# Altium footprint library Arduino_PcbLib1.PcbLib: 26 footprints (part 1 of 2)
Each footprint in its own frame and in the unit in brackets; x right, y up, seen from the top. Pads: shape width x height; smd on the part's side, far side on the other; paste and mask are expansions set on the pad; w line width, h text height; cw(c..) or ccw(c..) is an arc to the next point about the centre after c.
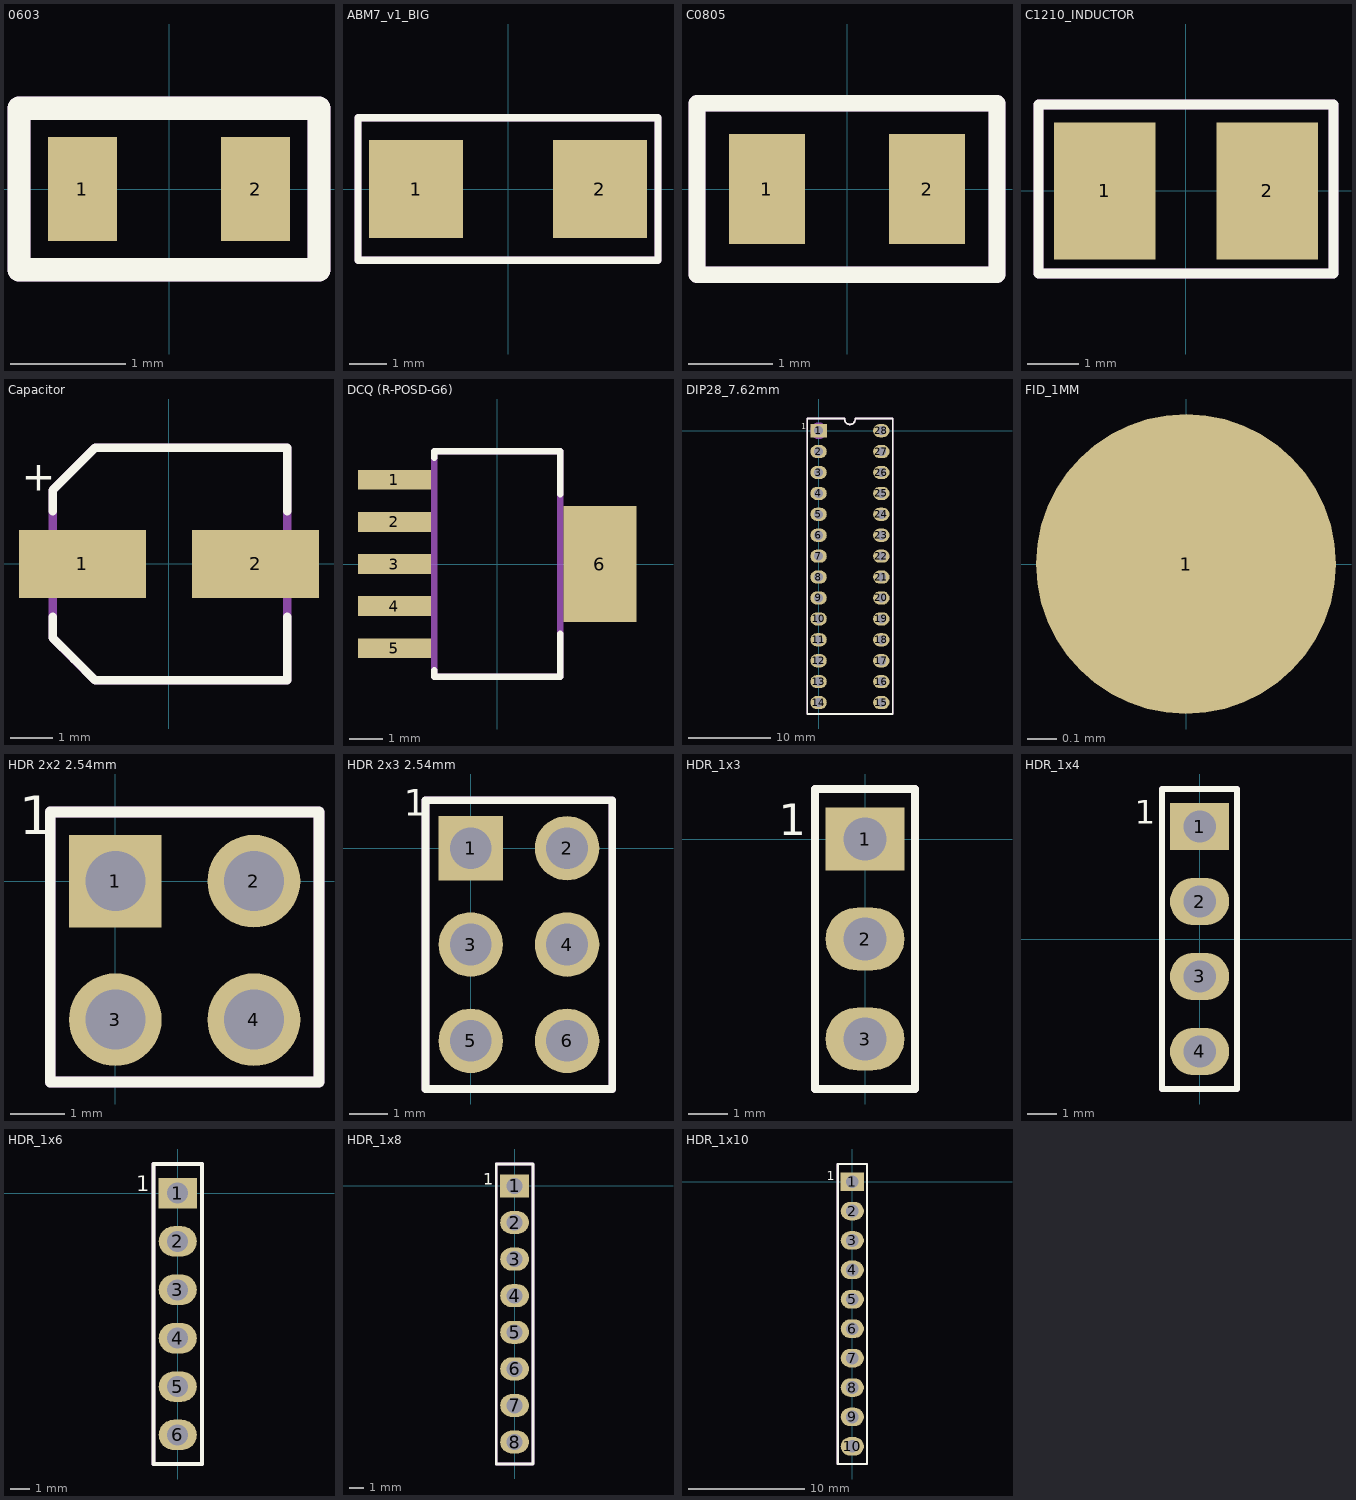
[diagram p0: the footprints below, top view; thin cyan lines are the x and y axes]

## 28_DIP_7.62mm_SOCKET [mm]
3D body "dil_socket.stp": height 4.2, standoff -3.17, extent -1.24,-34.26 8.86,1.24

## 0603 [mm]
pads (2):
  rect 0.6x0.9 smd: 1(-0.75,0) 2(0.75,0)
Top Overlay:
  lines w0.2: -1.3,-0.7 -1.3,0.7 1.3,0.7 1.3,-0.7 -1.3,-0.7
Top Assembly:
  lines w0.2: -1.3,-0.7 1.3,-0.7 1.3,0.7 -1.3,0.7 -1.3,-0.7
  text "'.Designator'" at -4.065,-0.067 h0.7
3D body "R0603.step": height 0.81, standoff 0.01, extent -0.8,-0.415 0.8,0.425

## ABM7_v1_BIG [mm]
pads (2):
  rect 2.5x2.6 smd: 1(-2.45,0) 2(2.45,0)
Top Overlay:
  lines w0.2: -4,-1.9 -4,1.9 4,1.9 4,-1.9 -4,-1.9
Top Assembly:
  lines w0.2: -4,-1.9 -4,1.9 4,1.9 4,-1.9 -4,-1.9
  text "'.Designator'1" at -4.257,0.333 h0.7
3D body "ABM7.STEP": height 1.41, standoff 0.01, extent -2.997,-1.753 2.997,1.752

## C0805 [mm]
pads (2):
  rect 0.9x1.3 smd: 1(-0.95,0) 2(0.95,0)
Top Overlay:
  lines w0.2: -1.778,-1.016 -1.778,1.016 1.778,1.016 1.778,-1.016 -1.778,-1.016
Top Assembly:
  lines w0.2: -1.778,-1.016 -1.778,1.016 1.778,1.016 1.778,-1.016 -1.778,-1.016
  text "'.Designator'" at -3.965,-0.175 h0.7
3D body "CAPC2012X95N EIA 0805.step": height 0.96, standoff 0.01, extent -1,-0.6 1,0.6

## C1210_INDUCTOR [mm]
pads (2):
  rect 2x2.7 smd: 1(-1.6,0) 2(1.6,0)
Top Overlay:
  lines w0.2: -2.9,-1.625 -2.9,1.7 2.9,1.7 2.9,-1.625 -2.9,-1.625
Top Assembly:
  lines w0.2: -2.9,-1.625 -2.9,1.7 2.9,1.7 2.9,-1.625 -2.9,-1.625
  text "'.Designator'" at -3.965,0.333 h0.7
3D body: height 2.7, standoff -0.01, extent -1.3,-1.25 1.3,1.25
3D body: height 2.7, standoff -0.01, extent 1.3,-1.25 1.6,1.25
3D body: height 2.7, standoff -0.01, extent -1.6,-1.25 -1.3,1.25

## Capacitor [mm]
pads (2):
  rect 3x1.6 smd: 1(-2.05,0) 2(2.05,0)
Top Overlay:
  lines w0.2: -2.75,-1.25 -2.75,-1.75 -2.25,-2.25 -1.75,-2.75 2.794,-2.75 2.794,-1.25 ; -2.75,1.25 -2.75,1.75 -1.75,2.75 -1.25,2.75 2.794,2.75 2.794,1.25
  text "+" at -3.483,1.733 h0.7
Top Assembly:
  lines w0.2: -2.75,-1.75 -1.75,-2.75 2.794,-2.75 2.794,2.75 -1.75,2.75 -2.75,1.75 -2.75,-1.75
  text "+" at -3.483,1.733 h0.7
  text "'.Designator'" at -3.965,0.333 h0.7
3D body "capacitor size C.step": height 5.43, standoff 0.01, extent -2.95,-2.65 2.95,2.65

## DCQ (R-POSD-G6) [mm]
pads (6):
  rect 2.2x0.6 smd: 1(-3.1,2.54) 2(-3.1,1.27) 3(-3.1,0) 4(-3.1,-1.27) 5(-3.1,-2.54)
  rect 2.2x3.5 smd: 6(3.1,0)
Top Overlay:
  lines w0.2: -1.9,-3.2 -1.9,-3.4 1.9,-3.4 1.9,-2.1 ; -1.9,3.2 -1.9,3.4 1.9,3.4 1.9,2.1
Top Assembly:
  lines w0.2: -1.9,-3.4 1.9,-3.4 1.9,3.4 -1.9,3.4 -1.9,3.2 -1.9,-3.4
  text "'.Designator'" at -3.965,0.333 h0.7
3D body "TPS73701DCQ.step": height 1.77, standoff -0.03, extent -3.63,-3.275 3.63,3.275

## DIP28_7.62mm [mm]
pads (28):
  rect 2x1.6 hole 1.1: 1(0,0)
  oval 2x1.6 hole 1.1: 2(0,-2.54) 3(0,-5.08) 4(0,-7.62) 5(0,-10.16) 6(0,-12.7) 7(0,-15.24) 8(0,-17.78) 9(0,-20.32) 10(0,-22.86) 11(0,-25.4) 12(0,-27.94) 13(0,-30.48) 14(0,-33.02) 15(7.62,-33.02) 16(7.62,-30.48) 17(7.62,-27.94) 18(7.62,-25.4) 19(7.62,-22.86) 20(7.62,-20.32) 21(7.62,-17.78) 22(7.62,-15.24) 23(7.62,-12.7) 24(7.62,-10.16) 25(7.62,-7.62) 26(7.62,-5.08) 27(7.62,-2.54) 28(7.62,0)
Top Overlay:
  lines w0.2: 3.175,1.39 ccw(c3.81,1.39) 4.445,1.39 ; 3.175,1.47 -1.39,1.47 -1.39,-34.41 9.01,-34.41 9.01,1.47 4.445,1.47
  text "1" at -2.1,0.2 h0.7
Top Assembly:
  circle w1: c0.01,-0.01 r0.51
  lines w0.2: 3.175,1.39 ccw(c3.81,1.39) 4.445,1.39 ; 3.175,1.47 -1.39,1.47 -1.39,-34.41 9.01,-34.41 9.01,1.47 4.445,1.47
  text "'.Designator'" at 3.977,-20.575 h0.7
3D body "1. User Library-28 pin dip.step": height 7.55, standoff 1.33, extent -0.027,-34.56 7.847,1.381

## FID_1MM [mil]
pads (1):
  round 40 smd paste-40 mask+40: 1(0,0)

## HDR 2x2 2.54mm [mm]
pads (4):
  rect 1.7x1.7 hole 1.1: 1(0,0)
  round 1.7 hole 1.1: 2(2.54,0) 3(0,-2.54) 4(2.54,-2.54)
Top Overlay:
  lines w0.2: -1.194,-3.683 -1.194,1.27 3.734,1.27 3.734,-3.683 -1.194,-3.683
  text "1" at -1.768,0.862 h0.7
Top Assembly:
  lines w0.2: -1.194,-3.683 -1.194,1.27 3.734,1.27 3.734,-3.683 -1.194,-3.683
  text "1" at -0.625,-0.281 h0.7
  text "'.Designator'1" at 1.064,-5.527 h0.7
3D body "961204-6404-XX.stp": height 8.04, standoff -3.26, extent -1.23,-3.81 3.77,1.27

## HDR 2x3 2.54mm [mm]
pads (6):
  rect 1.7x1.7 hole 1.1: 1(0,0)
  round 1.7 hole 1.1: 2(2.54,0) 3(0,-2.54) 4(2.54,-2.54) 5(0,-5.08) 6(2.54,-5.08)
Top Overlay:
  lines w0.2: -1.194,-6.35 -1.194,1.27 3.734,1.27 3.734,-6.35 -1.194,-6.35
  text "1" at -1.768,0.862 h0.7
Top Assembly:
  lines w0.2: -1.194,-6.35 -1.194,1.27 3.734,1.27 3.734,-6.35 -1.194,-6.35
  text "1" at -0.625,-0.281 h0.7
  text "'.Designator'1" at 0.937,-6.797 h0.7
3D body "961206-6404-XX.stp": height 8.04, standoff -3.26, extent -1.241,-6.35 3.759,1.27

## HDR_1x3 [mm]
pads (3):
  rect 2x1.6 hole 1.1: 1(0,0)
  oval 2x1.6 hole 1.1: 2(0,-2.54) 3(0,-5.08)
Top Overlay:
  lines w0.2: -1.27,-6.35 1.27,-6.35 1.27,1.27 -1.27,1.27 -1.27,-6.35
  text "1" at -2.186,0.1 h0.8
Top Assembly:
  lines w0.2: -1.27,-6.35 -1.27,1.27 1.27,1.27 1.27,-6.35 -1.27,-6.35
  text "1" at -2.186,0.1 h0.8
  text "'.Designator'1" at 0.267,-7.1 h0.7
3D body "HDR_1x3_White.stp": height 8.39, standoff -3.11, extent -1.1,-6.21 1.31,1.01

## HDR_1x4 [mm]
pads (4):
  rect 2x1.6 hole 1.1: 1(0,3.81)
  oval 2x1.6 hole 1.1: 2(0,1.27) 3(0,-1.27) 4(0,-3.81)
Top Overlay:
  lines w0.2: -1.27,-5.08 -1.27,5.08 1.27,5.08 1.27,-5.08 -1.27,-5.08
  text "1" at -2.186,3.91 h0.8
Top Assembly:
  lines w0.2: -1.27,-5.08 1.27,-5.08 1.27,5.08 -1.27,5.08 -1.27,-5.08
  text "'.Designator'1" at 0.508,-4.318 h0.7
  text "1" at -2.186,3.91 h0.8
3D body "HDR_1x4_White.stp": height 8.39, standoff -3.11, extent -1.27,-4.88 1.14,4.88

## HDR_1x6 [mm]
pads (6):
  rect 2x1.6 hole 1.1: 1(0,0)
  oval 2x1.6 hole 1.1: 2(0,-2.54) 3(0,-5.08) 4(0,-7.62) 5(0,-10.16) 6(0,-12.7)
Top Overlay:
  lines w0.2: -1.27,-14.224 1.27,-14.224 1.27,1.524 -1.27,1.524 -1.27,-14.224
  text "1" at -2.186,0.1 h0.8
Top Assembly:
  lines w0.2: -1.27,-14.224 -1.27,1.524 1.27,1.524 1.27,-14.224 -1.27,-14.224
  text "1" at -2.186,0.1 h0.8
  text "'.Designator'1" at 0.175,-10.822 h0.7
3D body "m20-7820646_asm.stp": height 8.51, standoff -2.99, extent -1.25,-14.17 1.25,1.47

## HDR_1x8 [mm]
pads (8):
  rect 2x1.6 hole 1.1: 1(0,0)
  oval 2x1.6 hole 1.1: 2(0,-2.54) 3(0,-5.08) 4(0,-7.62) 5(0,-10.16) 6(0,-12.7) 7(0,-15.24) 8(0,-17.78)
Top Overlay:
  lines w0.2: -1.27,-19.304 1.27,-19.304 1.27,1.524 -1.27,1.524 -1.27,-19.304
  text "1" at -2.186,0.1 h0.8
Top Assembly:
  lines w0.2: -1.27,-19.304 -1.27,1.524 1.27,1.524 1.27,-19.304 -1.27,-19.304
  text "1" at -2.186,0.1 h0.8
  text "'.Designator'1" at 0.175,-12.6 h0.7
3D body "m20-7820842_asm.stp": height 8.51, standoff -2.99, extent -1.25,-19.25 1.25,1.47

## HDR_1x10 [mm]
pads (10):
  rect 2x1.6 hole 1.1: 1(0,0)
  oval 2x1.6 hole 1.1: 2(0,-2.54) 3(0,-5.08) 4(0,-7.62) 5(0,-10.16) 6(0,-12.7) 7(0,-15.24) 8(0,-17.78) 9(0,-20.32) 10(0,-22.86)
Top Overlay:
  lines w0.2: -1.27,-24.384 1.27,-24.384 1.27,1.524 -1.27,1.524 -1.27,-24.384
  text "1" at -2.186,0.1 h0.8
Top Assembly:
  lines w0.2: -1.27,-24.384 1.27,-24.384 1.27,1.524 -1.27,1.524 -1.27,-24.384
  text "1" at -2.186,0.1 h0.8
  text "'.Designator'1" at 0.175,-16.41 h0.7
3D body "m20-7821046_asm.stp": height 8.51, standoff -2.99, extent -1.27,-24.33 1.23,1.47